# EAGLE library part G2R2 (library relay-fujitsu)
RELAY 2 x switch, Omron
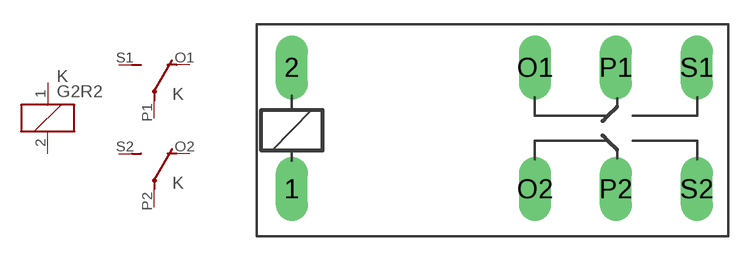
[diagram p19: symbol with the pads of G2R2; footprint G2R2]

Designator prefix K; gates 1=K 2=U 3=U

## G2R2  [G2R2]
1  1:1  pas
2  1:2  pas
O1  2:O  pas
O2  3:O  pas
P1  2:P  pas
P2  3:P  pas
S1  2:S  pas
S2  3:S  pas

## Footprint G2R2 (pad centres in mm)
RELAY 2 x switch, Omron
drill 1.321 long: 1 -2.54,-3.683; 2 -2.54,3.81; O1 12.471,3.81; O2 12.471,-3.683; P1 17.45,3.81; P2 17.45,-3.683; S1 22.454,3.81; S2 22.454,-3.683